# Altium footprint library BALFSPI202D3.PcbLib: 1 footprints
Each footprint in its own frame and in the unit in brackets; x right, y up, seen from the top. Pads: shape width x height; smd on the part's side, far side on the other; paste and mask are expansions set on the pad; w line width, h text height; cw(c..) or ccw(c..) is an arc to the next point about the centre after c.
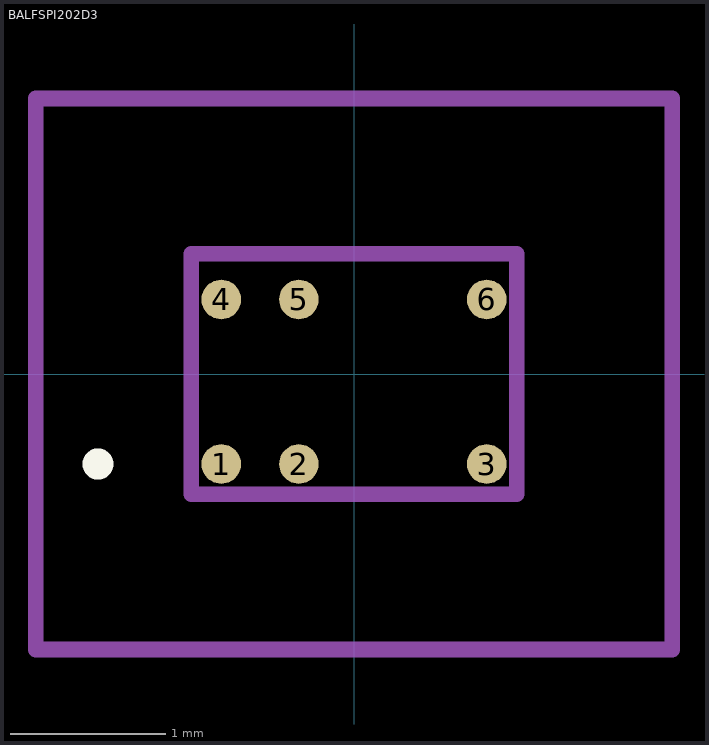
[diagram p0: the footprint, top view; thin cyan lines are the x and y axes]

## BALFSPI202D3 [mm]
pads (6):
  round 0.255 smd: 1(-0.855,-0.58) 2(-0.355,-0.58) 3(0.855,-0.58) 4(-0.855,0.48) 5(-0.355,0.48) 6(0.855,0.48)
Top Overlay:
  lines w0.1: -1.7,-0.58 cw(c-1.65,-0.58) -1.6,-0.58 ; -1.7,-0.58 -1.7,-0.58 ; -1.7,-0.58 ccw(c-1.65,-0.58) -1.6,-0.58 ; -1.6,-0.58 -1.6,-0.58
Mechanical 15:
  lines w0.1: -1.05,-0.775 1.05,-0.775 1.05,0.775 -1.05,0.775 -1.05,-0.775
Mechanical 20:
  lines w0.1: -2.05,-1.775 2.05,-1.775 2.05,1.775 -2.05,1.775 -2.05,-1.775